# EAGLE library part SI8641 (library ic-Silicon)
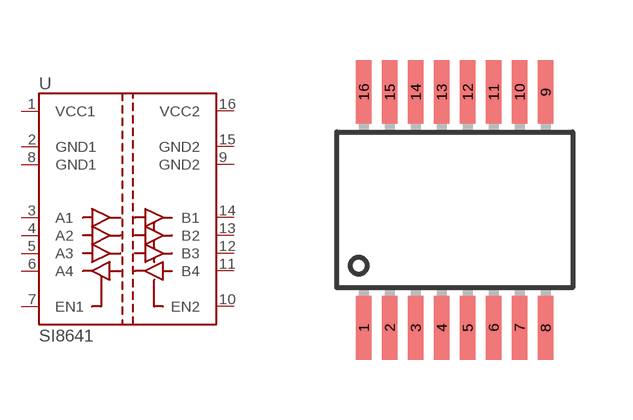
[diagram p0: symbol with the pads of SSOP16; footprint SSOP16]

Designator prefix U

## SI8641BA (RATING: 1; STATE: Low), SI8641BC (RATING: 3.75; STATE: Low), SI8641BD (RATING: 5; STATE: Low), SI8641EA (RATING: 1; STATE: High), SI8641EC (RATING: 3.75; STATE: High), SI8641ED (RATING: 5; STATE: High)  [SSOP16]
1  VCC1
2  GND1
3  A1
4  A2
5  A3
6  A4
7  EN1
8  GND1
9  GND2
10  EN2
11  B4
12  B3
13  B2
14  B1
15  GND2
16  VCC2

## Footprint SSOP16 (pad centres in mm)
smd 0.381 x 1.6: 1 -2.275,-2.95; 2 -1.625,-2.95; 3 -0.975,-2.95; 4 -0.325,-2.95; 5 0.325,-2.95; 6 0.975,-2.95; 7 1.625,-2.95; 8 2.275,-2.95; 9 2.275,2.95; 10 1.625,2.95; 11 0.975,2.95; 12 0.325,2.95; 13 -0.325,2.95; 14 -0.975,2.95; 15 -1.625,2.95; 16 -2.275,2.95